# EAGLE library part AO4842 (library caracas)
30V Dual N-Channel MOSFET The AO4842 uses advanced trench technology to provide excellent RDS(ON) and low gate charge. The two MOSFETs make a compact and efficient switch and synchronous rectifier combination for use in buck converters.
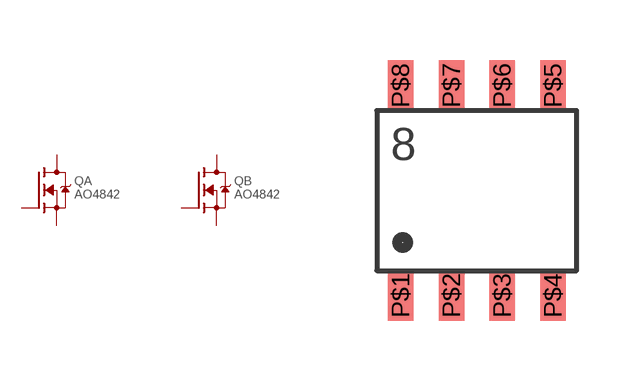
[diagram p1: symbol with the pads of 8-SOIC; footprint 8-SOIC]

Designator prefix Q; gates A=MOSFET-N B=MOSFET-N

## AO4842  [8-SOIC]
P$1  B:S
P$2  B:G
P$3  A:S
P$4  A:G
P$5  A:D
P$6  A:D
P$7  B:D
P$8  B:D

## Footprint 8-SOIC (pad centres in mm)
smd 0.635 x 1.27: P$1 0.6,-0.62; P$2 1.87,-0.62; P$3 3.14,-0.62; P$4 4.41,-0.62; P$5 4.41,4.63; P$6 3.14,4.63; P$7 1.87,4.63; P$8 0.6,4.63